# EAGLE library part CD4021BCM (library Fairchild_By_element14_Batch_1)
8-Stage Static Shift Register
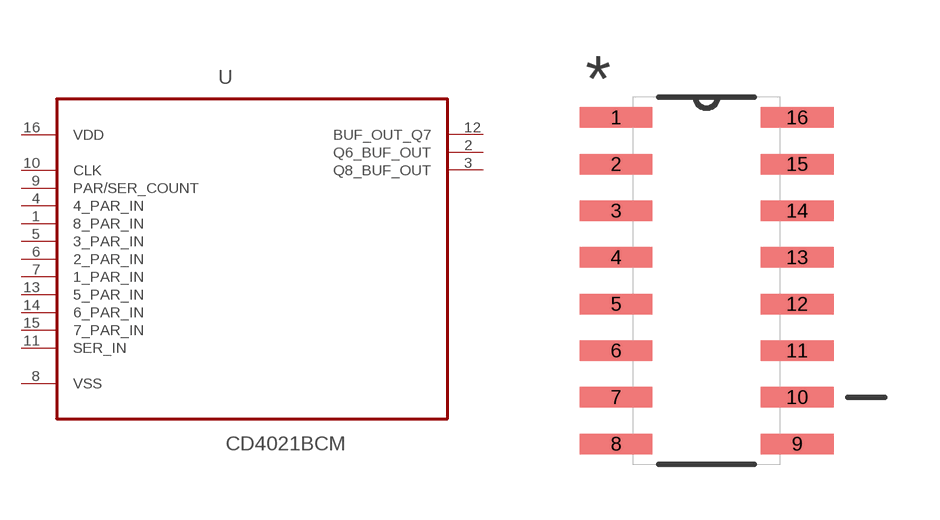
[diagram p153: symbol with the pads of SOIC127P600X175-16N; footprint SOIC127P600X175-16N]

Designator prefix U

## CD4021BCM (MPN: CD4021BCM; OC_FARNELL: 1014059; OC_NEWARK: -; PACKAGE: SOIC-16; SUPPLIER: Fairchild)  [SOIC127P600X175-16N]
1  8_PAR_IN  in
2  Q6_BUF_OUT  out
3  Q8_BUF_OUT  out
4  4_PAR_IN  in
5  3_PAR_IN  in
6  2_PAR_IN  in
7  1_PAR_IN  in
8  VSS  pwr
9  PAR/SER_COUNT  pas
10  CLK  in
11  SER_IN  in
12  BUF_OUT_Q7  out
13  5_PAR_IN  in
14  6_PAR_IN  in
15  7_PAR_IN  in
16  VDD  pwr

## Footprint SOIC127P600X175-16N (pad centres in mm)
smd 1.981 x 0.559: 1 -2.464,4.445; 2 -2.464,3.175; 3 -2.464,1.905; 4 -2.464,0.635; 5 -2.464,-0.635; 6 -2.464,-1.905; 7 -2.464,-3.175; 8 -2.464,-4.445; 9 2.464,-4.445; 10 2.464,-3.175; 11 2.464,-1.905; 12 2.464,-0.635; 13 2.464,0.635; 14 2.464,1.905; 15 2.464,3.175; 16 2.464,4.445